# Altium schematic symbol library Speaker Library.SchLib: 101 symbols
Pins are listed as number, name and electrical type; pins without a type are passive.

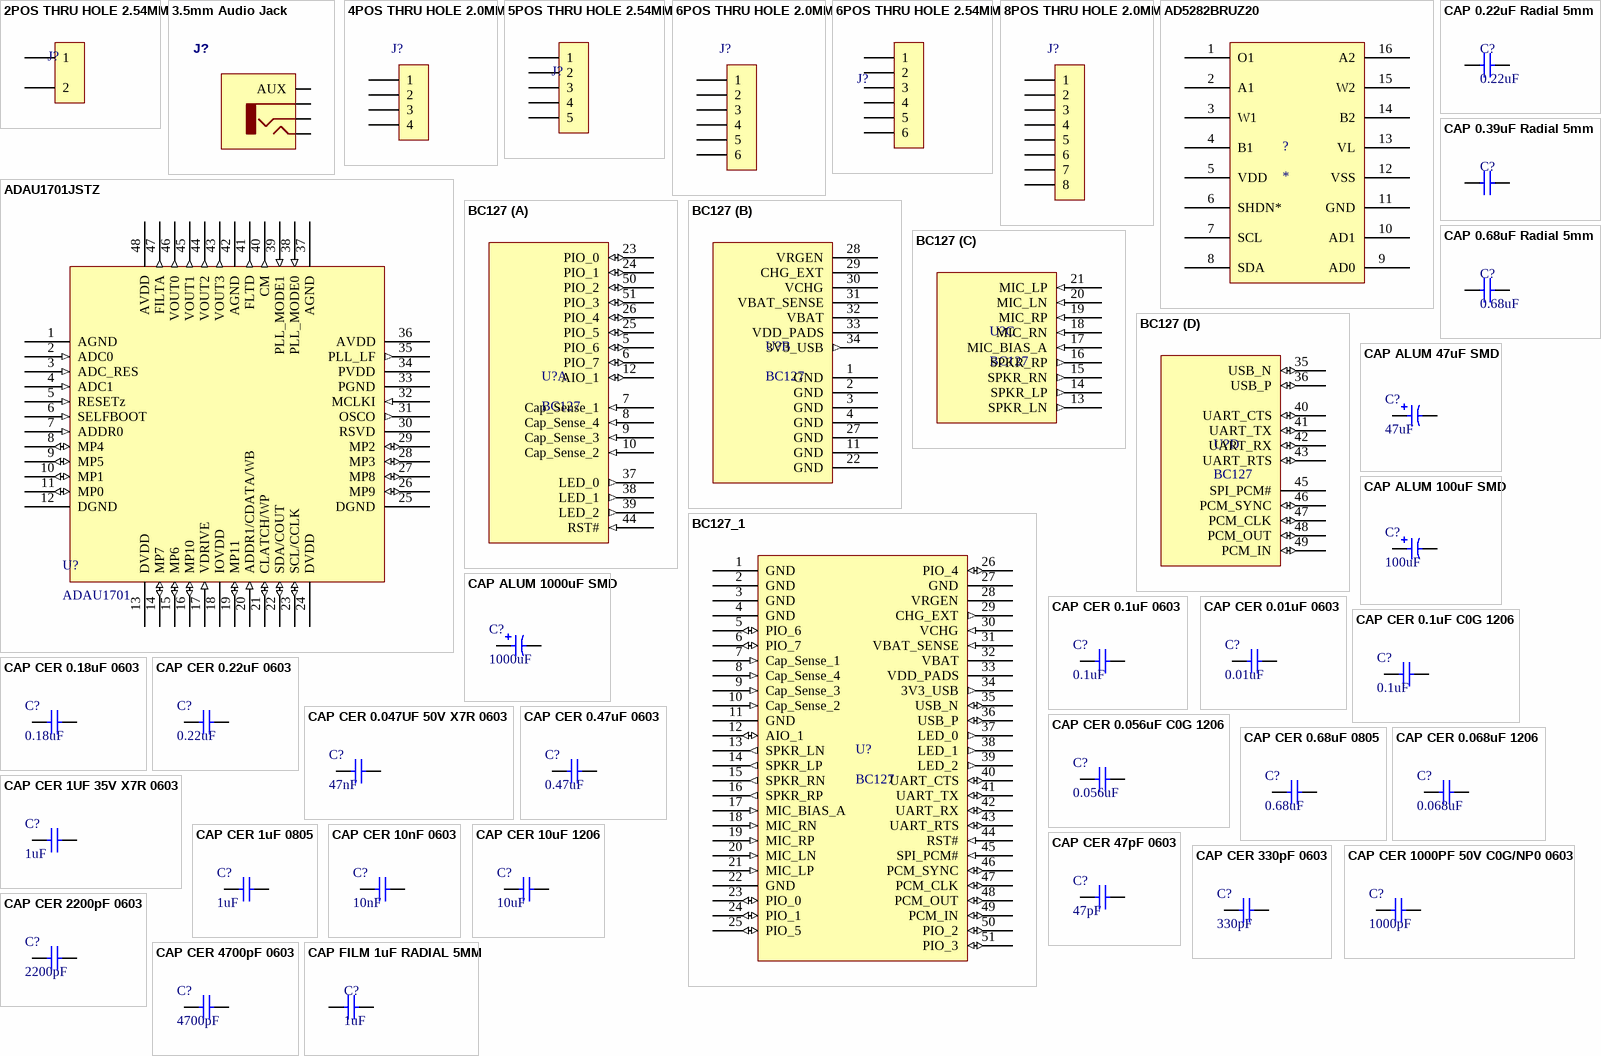
[diagram p0: symbols 2POS THRU HOLE 2.54MM to CAP FILM 1uF RADIAL 5MM]

## 2POS THRU HOLE 2.54MM
designator J?
footprint 070543-0001 (Connector, Through-hole, 2.54mm Pitch)
pins: 1, 2

## 3.5mm Audio Jack
designator J?
footprint JST PH-4
pins: 1 AUX, 2 SLEEVE, 3 RIGHT, 4 LEFT

## 4POS THRU HOLE 2.0MM
designator J?  (value not drawn)
Digikey Part Number: 455-1706-ND
footprint JST PH-4
pins: 1, 2, 3, 4

## 5POS THRU HOLE 2.54MM
designator J?  (value not drawn)
footprint 70543-0004 (Connector, Through-hole, 2.54mm Pitch)
pins: 1, 2, 3, 4, 5

## 6POS THRU HOLE 2.0MM
designator J?  (value not drawn)
Digikey Part Number: 455-1708-ND
footprint JST PH-6
pins: 1, 2, 3, 4, 5, 6

## 6POS THRU HOLE 2.54MM
designator J?  (value not drawn)
footprint 90147-1106 (Receptacle, 6POS, Through-hole, 2.54mm Pitch)
pins: 1, 2, 3, 4, 5, 6

## 8POS THRU HOLE 2.0MM
designator J?  (value not drawn)
Digikey Part Number: 455-1710-ND
footprint JST PH-8
pins: 1, 2, 3, 4, 5, 6, 7, 8

## AD5282BRUZ20
designator ?
Imported; Manufacturer_Part_Number: AD5282BRUZ20; Vendor: Analog Devices Inc; Taps: 256; Resistance (Ohms): 20K; Number of Circuits: 2; Temperature Coefficient: 30 ppm/Â°C Typical; Memory Type: Volatile; Interface: IÂ²C (Device Address); Voltage - Supply: 4.5 V ~ 16.5 V, Â±4.5 V ~ 5.5 V; C: Copyright (C) 2015 Accelerated Designs. All rights reserved; DigiKeyPartNumber: AD5282BRUZ20-ND; Quantity_Available: 1600; DataSheet: http://www.analog.com/static/imported-files/data_sheets/AD5280_5282.pdf; Operating Temperature: -40Â°C ~ 85Â°C; Mounting Type: Surface Mount; Package / Case: 16-TSSOP (0.173", 4.40mm Width); Supplier Device Package: 16-TSSOP; Packaging: Tube; Copyright: Copyright (C) 2015 Accelerated Designs. All rights reserved; RefDes: RefDes; Type: Type; Value: Value
footprint TSSOP-16
pins: 1 O1, 2 A1, 3 W1, 4 B1, 5 VDD (power), 6 SHDN*, 7 SCL, 8 SDA, 9 AD0, 10 AD1, 11 GND, 12 VSS (power), 13 VL (power), 14 B2, 15 W2, 16 A2

## ADAU1701JSTZ
designator U?, comment ADAU1701
IC AUDIO PROCESSOR 2ADC/4DAC 48-LQFP; Manufacturer: Analog Devices; Value: ADAU1701; Digikey Part Number: ADAU1701JSTZ-RLCT-ND
footprint TSQFP50P900X900X160-48M (TSQFP, 48-Leads, Body 7.00x7.00mm, Pitch 0.50mm, IPC Low Density)
pins: 1 AGND (power) "Analog Ground", 2 ADC0 (in) "Analog In 0, 100uA rms input", 3 ADC_RES (in) "ADC Reference Current", 4 ADC1 (in) "Analog In 0, 100uA rms input", 5 RESETz (in) "Active Low Reset Input", 6 SELFBOOT (in) "Enable/Disable Self Boot", 7 ADDR0 (in) "I2C and SPI Address 0", 8 MP4 (io) "LRCLK", 9 MP5 (io) "BCLK", 10 MP1 (io) "SDATA_IN0", 11 MP0 (io) "SDATA_IN1", 12 DGND (power) "Digital Ground", 13 DVDD (power) "1.8V Digital Supply", 14 MP7 (io) "SDATA_OUT1", 15 MP6 (io) "SDATA_OUT0", 16 MP10 (io) "OUTPUT_LRCLK", 17 VDRIVE (in) "Drive for 1.8V Regulator", 18 IOVDD (power) "3.3V IO Power", 19 MP11 (io) "OUTPUT_BCLK", 20 ADDR1/CDATA/WB (in) "I2C Address 1, SPI Data In, EEPROM Writeback Trigger", 21 CLATCH/WP (io) "SPI Latch/Self-Boot EEPROM Write Protect", 22 SDA/COUT (io) "I2C Data/SPI Data Out", 23 SCL/CCLK (io) "SPI/I2C clock", 24 DVDD (power) "1.8V Digital Supply", 25 DGND (power) "Digital Ground", 26 MP9 (io) "SDATA_OUT3, AUX ADC 0", 27 MP8 (io) "SDATA_OUT2, AUX ADC 3", 28 MP3 (io) "SDATA_IN3, AUX ADC 2", 29 MP2 (io) "SDATA_IN2, AUX ADC 1", 30 RSVD "Tie to ground", 31 OSCO (out) "Oscillator Output", 32 MCLKI (in) "Master Clock Input", 33 PGND (power) "PLL Ground Pin", 34 PVDD (power) "3V3 Power Supply for PLL and Aux ADC", 35 PLL_LF (out) "PLL Loop Filter", 36 AVDD (power) "3V3 Analog Supply", 37 AGND (power) "Analog Ground", 38 PLL_MODE0 (in) "PLL Mode Setting", 39 PLL_MODE1 (in) "PLL Mode Setting", 40 CM (out) "1.5V Common-Mode Reference", 41 FLTD (out) "DAC Filter Decoupling Pin", 42 AGND (power) "Analog Ground", 43 VOUT3 (out) "DAC Output", 44 VOUT2 (out) "DAC Output", 45 VOUT1 (out) "DAC Output", 46 VOUT0 (out) "DAC Output", 47 FILTA (out) "ADC Filter Decoupling", 48 AVDD (power) "3V3 Analog Supply"

## BC127
designator U?
footprint BC127
part A pins: 5 PIO_6 (io) "PIO", 6 PIO_7 (io) "PIO", 7 Cap_Sense_1 (in), 8 Cap_Sense_4 (in), 9 Cap_Sense_3 (in), 10 Cap_Sense_2 (in), 12 AIO_1 (io) "Analog I/O", 23 PIO_0 (io), 24 PIO_1 (io), 25 PIO_5 (io), 26 PIO_4 (io), 37 LED_0 (out) "LED Driver", 38 LED_1 (out) "LED Driver", 39 LED_2 (out) "LED Driver", 44 RST# (in) "Reset (if low for more than 5ms)", 50 PIO_2 (io), 51 PIO_3 (io)
part B pins: 1 GND (power) "Common Ground", 2 GND (power) "Common Ground", 3 GND (power) "Common Ground", 4 GND (power) "Common Ground", 11 GND (power) "Common Ground", 22 GND (power) "Common Ground", 27 GND (power) "Common Ground", 28 VRGEN, 29 CHG_EXT "Charger Control", 30 VCHG "Charger Input", 31 VBAT_SENSE "Battery Charger Sense", 32 VBAT "Battery Positive", 33 VDD_PADS (power) "Positive Supply Input", 34 3V3_USB (out) "Positive Supply Output"
part C pins: 13 SPKR_LN (out) "Speaker Left Negative", 14 SPKR_LP (out) "Speaker Left Positive", 15 SPKR_RN (out) "Speaker Right Negative", 16 SPKR_RP (out) "Speaker Right Positive", 17 MIC_BIAS_A (in), 18 MIC_RN (in), 19 MIC_RP (in), 20 MIC_LN (in), 21 MIC_LP (in)
part D pins: 35 USB_N (io) "USB Data Negative", 36 USB_P (io) "USB Data Positive", 40 UART_CTS (io) "UART Clear to Send", 41 UART_TX (io) "UART TX Data", 42 UART_RX (io) "UART RX Data", 43 UART_RTS (io) "UART Request to Send, Active Low", 45 SPI_PCM# "PCB/SPI Select", 46 PCM_SYNC (io), 47 PCM_CLK (io), 48 PCM_OUT (io), 49 PCM_IN (io)

## BC127_1
designator U?, comment BC127
footprint BC127
pins: 1 GND (power) "Common Ground", 2 GND (power) "Common Ground", 3 GND (power) "Common Ground", 4 GND (power) "Common Ground", 5 PIO_6 (io) "PIO", 6 PIO_7 (io) "PIO", 7 Cap_Sense_1 (in), 8 Cap_Sense_4 (in), 9 Cap_Sense_3 (in), 10 Cap_Sense_2 (in), 11 GND (power) "Common Ground", 12 AIO_1 (io) "Analog I/O", 13 SPKR_LN (out) "Speaker Left Negative", 14 SPKR_LP (out) "Speaker Left Positive", 15 SPKR_RN (out) "Speaker Right Negative", 16 SPKR_RP (out) "Speaker Right Positive", 17 MIC_BIAS_A (in), 18 MIC_RN (in), 19 MIC_RP (in), 20 MIC_LN (in), 21 MIC_LP (in), 22 GND (power) "Common Ground", 23 PIO_0 (io), 24 PIO_1 (io), 25 PIO_5 (io), 26 PIO_4 (io), 27 GND (power) "Common Ground", 28 VRGEN, 29 CHG_EXT (out) "Charger Control", 30 VCHG (in) "Charger Input", 31 VBAT_SENSE (in) "Battery Charger Sense", 32 VBAT "Battery Positive", 33 VDD_PADS (power) "Positive Supply Input", 34 3V3_USB (out) "Positive Supply Output", 35 USB_N (io) "USB Data Negative", 36 USB_P (io) "USB Data Positive", 37 LED_0 (out) "LED Driver", 38 LED_1 (out) "LED Driver", 39 LED_2 (out) "LED Driver", 40 UART_CTS (io) "UART Clear to Send", 41 UART_TX (io) "UART TX Data", 42 UART_RX (io) "UART RX Data", 43 UART_RTS (io) "UART Request to Send, Active Low", 44 RST# (in) "Reset (if low for more than 5ms)", 45 SPI_PCM# (in) "PCB/SPI Select", 46 PCM_SYNC (io), 47 PCM_CLK (io), 48 PCM_OUT (io), 49 PCM_IN (io), 50 PIO_2 (io), 51 PIO_3 (io)

## CAP 0.22uF Radial 5mm
designator C?, comment 0.22uF
Film cap in crossover; Manufacturer: EPCOS (TDK); Voltage: 100V; Value: 0.22uF; Digikey Part Number: 495-4985-1-ND
footprint CAP Radial 5mm
pins: 1, 2

## CAP 0.39uF Radial 5mm
designator C?, comment 0.39uF  (value not drawn)
Film cap in LT; Manufacturer: EPCOS (TDK); Manufacturer P/N: B32529C105J; Voltage: 63V; Value: 0.39uF; Digikey Part Number: 495-4846-1-ND
footprint CAP Radial 5mm
pins: 1, 2

## CAP 0.68uF Radial 5mm
designator C?, comment 0.68uF
Output Cap; Manufacturer: EPCOS (TDK); Voltage: 63V; Value: 0.68uF; Digikey Part Number: 495-1114-ND
footprint CAP Radial 5mm
pins: 1, 2

## CAP ALUM 47uF SMD
designator C?, comment 47uF
Manufacturer: Panasonic; Voltage: 35V; Digikey Part Number: PCE3842CT-ND; Value: 47uF
footprint CAP_EEFK_D
pins: 1, 2

## CAP ALUM 100uF SMD
designator C?, comment 100uF
Manufacturer: Nichicon; Voltage: 50V; Digikey Part Number: 493-2226-1-ND; Value: 100uF
footprint PCAP_8x10-ELEC00
pins: 1, 2

## CAP ALUM 1000uF SMD
designator C?, comment 1000uF
Input Bulk Cap; Manufacturer: Nichicon; Voltage: 25V; Tolerance: 20%; Digikey Part Number: 493-1305-ND; Value: 1000uF
footprint Nichicon UVZ 5mm
pins: 1, 2

## CAP CER 0.1uF 0603
designator C?, comment 0.1uF
Voltage: 50V; Rating: X7R; Tolerance: 10%; Value: 0.1uF; Digikey Part Number: 490-1519-1-ND; Package: 0603
footprint CAPC1608X09N (Chip Capacitor, 2-Leads, Body 1.60x0.80mm, IPC Medium Density)
pins: 1, 2

## CAP CER 0.01uF 0603
designator C?, comment 0.01uF
Manufacturer: Murata; Rating: C0G; Value: 0.01uF; Digikey Part Number: 490-9666-1-ND
footprint CAPC1608X09N (Chip Capacitor, 2-Leads, Body 1.60x0.80mm, IPC Medium Density)
pins: 1, 2

## CAP CER 0.1uF C0G 1206
designator C?, comment 0.1uF
Voltage: 25V; Rating: C0G; Tolerance: 5%; Value: 0.1uF; Digikey Part Number: 490-1767-1-ND; Package: 1206
footprint CAPC3216X18N (Chip Capacitor, 2-Leads, Body 3.20x1.60mm, IPC Medium Density)
pins: 1, 2

## CAP CER 0.18uF 0603
designator C?, comment 0.18uF
Manufacturer: Murata; Voltage: 25V; Rating: X7R; Value: 0.18uF; Digikey Part Number: 490-6431-1-ND; Package: 0603
footprint CAPC1608X09N (Chip Capacitor, 2-Leads, Body 1.60x0.80mm, IPC Medium Density)
pins: 1, 2

## CAP CER 0.22uF 0603
designator C?, comment 0.22uF
Manufacturer: Murata; Voltage: 50V; Rating: X7R; Value: 0.22uF; Digikey Part Number: 1276-1111-1-ND
footprint CAPC1608X09N (Chip Capacitor, 2-Leads, Body 1.60x0.80mm, IPC Medium Density)
pins: 1, 2

## CAP CER 0.047UF 50V X7R 0603
designator C?, comment 47nF
CAP CER 0.047UF 50V X7R 0603; Manufacturer: Murata; Manufacturer Part Number: GRM188R71H473KA61J; Tolerance: 10%; Value: 47nF; Digikey Part Number: 490-6436-1-ND; Voltage: 50V; Rating: X7R
footprint CAPC1608X09N (Chip Capacitor, 2-Leads, Body 1.60x0.80mm, IPC Medium Density)
pins: 1, 2

## CAP CER 0.47uF 0603
designator C?, comment 0.47uF
Voltage: 25V; Rating: X7R; Value: 0.47uF; Digikey Part Number: 490-3291-1-ND
footprint CAPC1608X09N (Chip Capacitor, 2-Leads, Body 1.60x0.80mm, IPC Medium Density)
pins: 1, 2

## CAP CER 0.056uF C0G 1206
designator C?, comment 0.056uF
Voltage: 50V; Rating: C0G; Tolerance: 5%; Value: 0.056uF; Digikey Part Number: 490-8347-1-ND; Package: 1206
footprint CAPC3216X18N (Chip Capacitor, 2-Leads, Body 3.20x1.60mm, IPC Medium Density)
pins: 1, 2

## CAP CER 0.68uF 0805
designator C?, comment 0.68uF
High Reliability, Low Voltage Shift; Manufacturer: TDK; Manufacturer Part Number: CGJ4J2X7R1E684K125AA; Voltage: 25V; Rating: X7R; Value: 0.68uF; Digikey Part Number: 445-8178-1-ND
footprint CAPC2012X09N (Chip Capacitor, 2-Leads, Body 2.00x1.25mm, IPC Medium Density)
pins: 1, 2

## CAP CER 0.068uF 1206
designator C?, comment 0.068uF
Voltage: 100V; Rating: C0G; Tolerance: 5%; Value: 0.068uF; Digikey Part Number: 445-172693-1-ND; Package: 1206
footprint CAPC3216X18N (Chip Capacitor, 2-Leads, Body 3.20x1.60mm, IPC Medium Density)
pins: 1, 2

## CAP CER 1UF 35V X7R 0603
designator C?, comment 1uF
CAP CER 1UF 35V X7R 0603; Manufacturer: Murata; Manufacturer Part Number: GRM188R7YA105MA12D; Tolerance: 20%; Value: 1uF; Digikey Part Number: 490-10488-1-ND; Voltage: 35V; Rating: X7R
footprint CAPC1608X09N (Chip Capacitor, 2-Leads, Body 1.60x0.80mm, IPC Medium Density)
pins: 1, 2

## CAP CER 1uF 0805
designator C?, comment 1uF
Ceramic suitable for audio AC coupling; Manufacturer: Murata; Manufacturer Part Number: GRM21BR71E105KA99; Voltage: 25V; Tolerance: 10%; Rating: X7R; Value: 1uF; Digikey Part Number: 490-6484-1-ND
footprint CAPC2012X09N (Chip Capacitor, 2-Leads, Body 2.00x1.25mm, IPC Medium Density)
pins: 1, 2

## CAP CER 10nF 0603
designator C?, comment 10nF
Bypass caps; Manufacturer: Murata; Digikey Part Number: 490-9666-1-ND; Value: 10nF
footprint CAPC1608X09N (Chip Capacitor, 2-Leads, Body 1.60x0.80mm, IPC Medium Density)
pins: 1, 2

## CAP CER 10uF 1206
designator C?, comment 10uF
3V3 filter cap; Voltage: 25V; Rating: X7R; Digikey Part Number: 490-6518-1-ND; Value: 10uF
footprint CAPC3216X18N (Chip Capacitor, 2-Leads, Body 3.20x1.60mm, IPC Medium Density)
pins: 1, 2

## CAP CER 47pF 0603
designator C?, comment 47pF
Rating: C0G; Voltage: 50V; Value: 47pF; Digikey Part Number: 490-1419-1-ND
footprint CAPC1608X09N (Chip Capacitor, 2-Leads, Body 1.60x0.80mm, IPC Medium Density)
pins: 1, 2

## CAP CER 330pF 0603
designator C?, comment 330pF
Manufacturer: Murata; Rating: C0G; Voltage: 50V; Value: 330pF; Digikey Part Number: 490-1439-1-ND
footprint CAPC1608X09N (Chip Capacitor, 2-Leads, Body 1.60x0.80mm, IPC Medium Density)
pins: 1, 2

## CAP CER 1000PF 50V C0G/NP0 0603
designator C?, comment 1000pF
CAP CER 1000PF 50V C0G/NP0 0603; Manufacturer: Murata; Manufacturer Part Number: GRM1885C1H102JA01D; Rating: C0G; Value: 1000pF; Digikey Part Number: 490-1451-1-ND; Voltage: 50V
footprint CAPC1608X09N (Chip Capacitor, 2-Leads, Body 1.60x0.80mm, IPC Medium Density)
pins: 1, 2

## CAP CER 2200pF 0603
designator C?, comment 2200pF
Manufacturer: Murata; Voltage: 50V; Tolerance: 1%; Rating: C0G; Value: 2200pF; Digikey Part Number: 490-7768-1-ND
footprint CAPC1608X09N (Chip Capacitor, 2-Leads, Body 1.60x0.80mm, IPC Medium Density)
pins: 1, 2

## CAP CER 4700pF 0603
designator C?, comment 4700pF
Manufacturer: TDK; Voltage: 100V; Tolerance: 5%; Rating: C0G; Value: 4700pF; Digikey Part Number: 445-172684-1-ND
footprint CAPC1608X09N (Chip Capacitor, 2-Leads, Body 1.60x0.80mm, IPC Medium Density)
pins: 1, 2

## CAP FILM 1uF RADIAL 5MM
designator C?, comment 1uF
Audio coupling cap; Manufacturer: EPCOS (TDK); Manufacturer P/N: B32529C105J; Voltage: 63V; Value: 1uF; Digikey Part Number: 495-1119-ND
footprint CAP Radial 5mm
pins: 1, 2

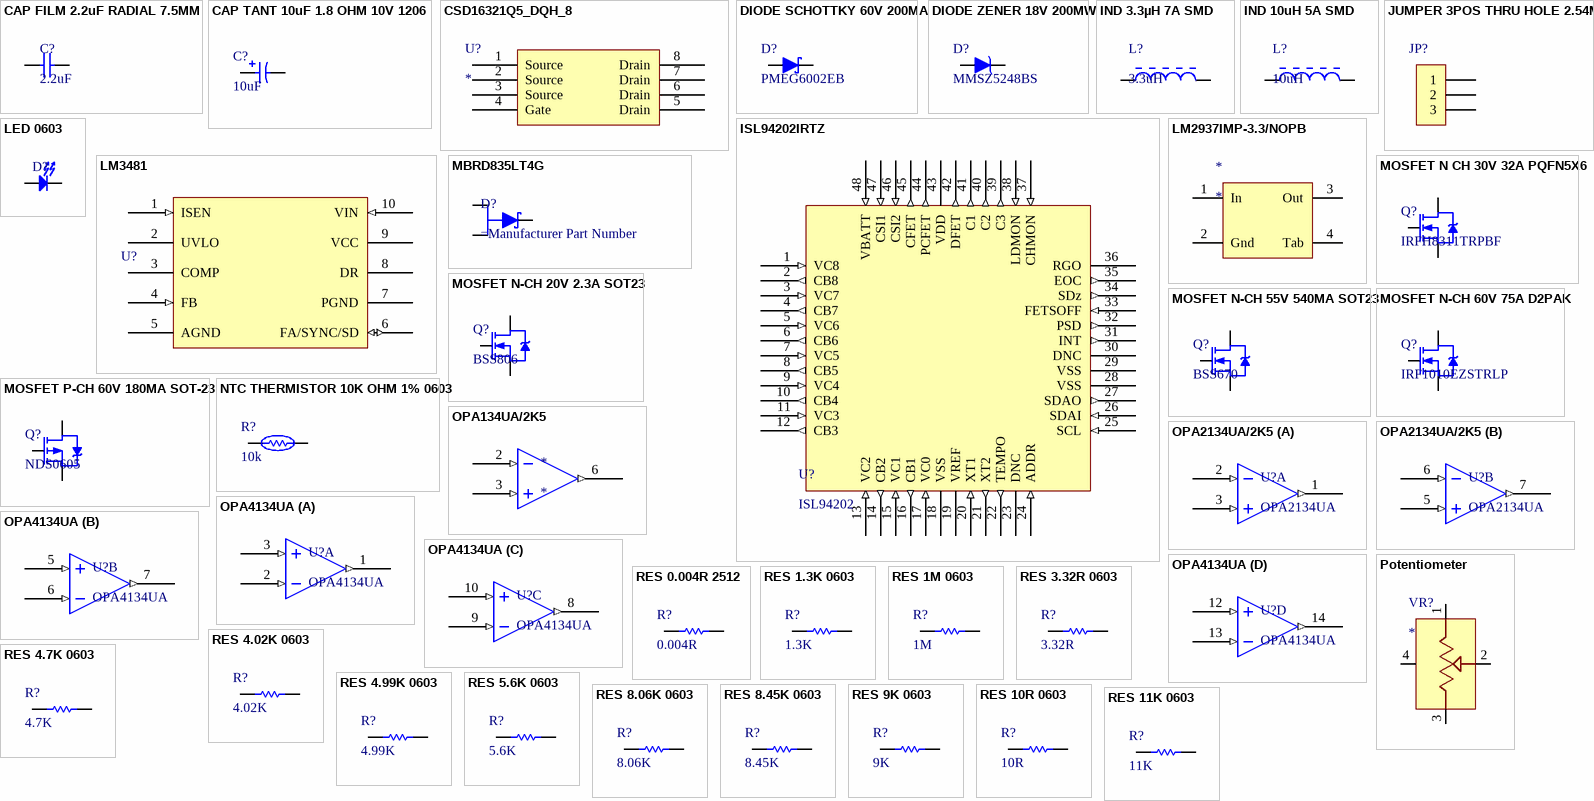
[diagram p1: symbols CAP FILM 2.2uF RADIAL 7.5MM to RES 11K 0603]

## CAP FILM 2.2uF RADIAL 7.5MM
designator C?, comment 2.2uF
Audio coupling cap; Manufacturer: EPCOS (TDK); Manufacturer P/N: B32520C225K; Voltage: 40V; Value: 2.2uF; Digikey Part Number: 495-4814-ND
footprint CAP Radial 7.5MM
pins: 1, 2

## CAP TANT 10uF 1.8 OHM 10V 1206
designator C?, comment 10uF
Voltage: 10V; Tolerance: 10%; ESR: 1.8 Ohm; Digikey Part Number: 399-8431-1-ND; Value: 10uF
footprint CAPMP3216X18N (Molded Capacitor, 2-Leads, Body 3.20x1.60mm, IPC Medium Density)
pins: 1, 2

## CSD16321Q5_DQH_8
designator U?
Manufacturer: Texas Instruments; GENERIC_PART_NUMBER: CSD16321Q5; INDUSTRY_STD_PKG_TYPE: SON; FAMILY_NAME: N-Channel MOSFET Transistors; PIN_COUNT: 8; PACKAGE_DESIGNATOR: DQH; Datasheet URL: http://www.ti.com/lit/gpn/CSD16321Q5; RefDes: RefDes; Type: DEV; Value: Value; Digikey Part Number: 296-25643-1-ND
footprint DQH8
pins: 1 Source, 2 Source, 3 Source, 4 Gate, 5 Drain, 6 Drain, 7 Drain, 8 Drain

## DIODE SCHOTTKY 60V 200MA
designator D?, comment PMEG6002EB
DIODE SCHOTTKY 60V 200MA; Configuration: Single; Type: Schottky; Footprint: SOD523; Voltage: 60V; Current: 200mA; Digikey Part Number: 1727-5843-1-ND; Value: PMEG6002EB
footprint SODFL160X65-2N (SODFL, 2-Leads, Body 0.80x1.60mm, IPC Medium Density)
pins: 1, 2

## DIODE ZENER 18V 200MW
designator D?, comment MMSZ5248BS
DIODE ZENER 18V 200MW; Configuration: Single; Type: ZENER; Footprint: SOD323; Voltage: 18V; Digikey Part Number: MMSZ5248BS-FDICT-ND; Value: MMSZ5248BS
footprint SOD323-DIODES-INCORPORATED-MMSZ5248 (SOD323, 2-Leads, Body 1.30x2.50mm, IPC Medium Density)
pins: 1, 2

## IND 3.3µH 7A SMD
designator L?, comment 3.3uH
Digikey Part Number: SRP7030-3R3FMCT-ND; Value: 3.3uH
footprint IND_BOURNS_SRP00 - duplicate
pins: 1, 2

## IND 10uH 5A SMD
designator L?, comment 10uH
Digikey Part Number: SRN1060-100MCT-ND; Value: 10uH
footprint IND_BOURNS_SRN10
pins: 1, 2

## ISL94202IRTZ
designator U?, comment ISL94202
IC MULTI BATTERY MONITOR 48TQFN; Manufacturer: Intersil; Digikey Part Number: ISL94202IRTZ-T7ACT-ND; Value: ISL94202; Footprint: TQFN (6x6)
pins: 1 VC8 (in), 2 CB8 (out), 3 VC7 (in), 4 CB7 (out), 5 VC6 (in), 6 CB6 (out), 7 VC5 (in), 8 CB5 (out), 9 VC4 (in), 10 CB4 (out), 11 VC3 (in), 12 CB3 (out), 13 VC2 (in), 14 CB2 (out), 15 VC1 (in), 16 CB1 (out), 17 VC0 (in), 18 VSS (power), 19 VREF (power), 20 XT1 (in), 21 XT2 (out), 22 TEMPO (out), 23 DNC, 24 ADDR (in), 25 SCL (in), 26 SDAI (in), 27 SDAO (out), 28 VSS (power), 29 VSS (power), 30 DNC, 31 INT (out), 32 PSD (out), 33 FETSOFF (in), 34 SDz (out), 35 EOC (out), 36 RGO (power), 37 CHMON (in), 38 LDMON (in), 39 C3 (out), 40 C2 (out), 41 C1 (out), 42 DFET (out), 43 VDD (power), 44 PCFET (out), 45 CFET (out), 46 CSI2 (in), 47 CSI1 (in), 48 VBATT (in)

## JUMPER 3POS THRU HOLE 2.54MM
designator JP?
footprint 3 Position 2.54MM Thru-Hole (Jumper, Through-hole, 2.54mm Pitch)
pins: 1, 2, 3

## LED 0603
designator D?
Voltage: 2.2V; Configuration: Single; Current: 20mA; Footprint: 0603; Temperature: 85dC; Digikey Part Number: 160-1447-1-ND
footprint DIOM1608X08N (Molded Diode, 2-Leads, Body 1.60x0.80mm, IPC Medium Density)
pins: 1 K2, 2 A2

## LM2937IMP-3.3/NOPB
designator *
Digikey Part Number: LM2937IMP-3.3/NOPBCT-ND
footprint SOT230P700X180-4N (DCY) (SOT223, 4-Leads, Body 6.50x7.00mm (avg), Pitch 2.30mm, IPC Medium Density)
pins: 1 In (power), 2 Gnd (power), 3 Out (power), 4 Tab (power)

## LM3481
designator U?  (value not drawn)
IC REG CTRLR MULT TOP 10MSOP; Digikey Part Number: LM3481MM/NOPBCT-ND
footprint VSSOP10 (DGS (S-PDS0-G10)
pins: 1 ISEN (in), 2 UVLO, 3 COMP, 4 FB (in), 5 AGND (power), 6 FA/SYNC/SD (io), 7 PGND (power), 8 DR, 9 VCC (power), 10 VIN (in)

## MBRD835LT4G
designator D?
SHOTTKEY 35V 8A; Type: SCHOT; Configuration: Single; Footprint: TO-252-3; Voltage: 35V; Current: 8A; Digikey Part Number: MBRD835LT4GOSCT-ND
footprint ONSEMI DPAK-3
pins: 1, 3, 4

## MOSFET N CH 30V 32A PQFN5X6
designator Q?, comment IRFH8311TRPBF
MOSFET N CH 30V 32A PQFN5X6; Manufacturer: Infineon Technologies; Rds On (Max): 2.1 mOhm @ 20A, 10V; Vth: 2.35V @ 100µA; Power Dissipation (Max): 3.6W; Vgs (max): ±20V; Digikey Part Number: IRFH8311TRPBFCT-ND; VDS: 30V; Value: IRFH8311TRPBF; Max Current: 32A
footprint 8-TQFN Exposed Pad (Infineon "G" package)
pins: 1 G, 2 S, 3 D

## MOSFET N-CH 20V 2.3A SOT23
designator Q?, comment BSS806
MOSFET N-CH 20V 2.3A SOT23; Manufacturer: Infineon Technologies; Rds On (Max): 57 mOhm @ 2.3A, 2.5V; Vth: 750mV; Power Dissipation (Max): 500mW; Vgs (max): 8V; Digikey Part Number: BSS806NH6327XTSA1CT-ND; VDS: 20V; Value: BSS806; Max Current: 2.3A
pins: 1 G, 2 S, 3 D

## MOSFET N-CH 55V 540MA SOT23
designator Q?, comment BSS670
MOSFET N-CH 55V 540MA SOT23; Manufacturer: Infineon Technologies; VDS: 50V; Rds On (Max): 650 mOhm @ 270mA, 10V; Vth: 2V; Power Dissipation (Max): 360mW; Vgs (max): 20V; Digikey Part Number: BSS670S2LH6327XTSA1CT-ND; Value: BSS670; Max Current: 540mA
footprint SOT95P237X110-3N (SOT23, 3-Leads, Body 2.90x2.37mm, Pitch 0.95mm, IPC Medium Density)
pins: 1 G, 2 S, 3 D

## MOSFET N-CH 60V 75A D2PAK
designator Q?, comment IRF1010EZSTRLP
MOSFET N-CH 60V 75A; Manufacturer: Infineon Technologies; Rds On (Max): 8.5 mOhm @ 51A, 10V; Vth: 4V @ 100µA; Power Dissipation (Max): 140W; Vgs (max): 20V; Digikey Part Number: IRF1010EZSTRLPCT-ND; VDS: 60V; Value: IRF1010EZSTRLP; Max Current: 75A
pins: 1 G, 2 S, 3 D

## MOSFET P-CH 60V 180MA SOT-23
designator Q?, comment NDS0605
MOSFET P-CH 60V 180MA SOT-23; Manufacturer: Fairchild/ON Semiconductor; Rds On (Max): 5 Ohm @ 500mA, 10V; Vth: 3V @ 250µA; Power Dissipation (Max): 360mW; Vgs (max): ±20V; Digikey Part Number: NDS0605CT-ND; VDS: 60V; Value: NDS0605; Max Current: 180mA
footprint SOT95P237X110-3N (SOT23, 3-Leads, Body 2.90x2.37mm, Pitch 0.95mm, IPC Medium Density)
pins: 1 G, 2 S, 3 D

## NTC THERMISTOR 10K OHM 1% 0603
designator R?, comment 10k
NTC THERMISTOR 10K OHM 1% 0603; Manufacturer: Panasonic Electronic Components; Manufacturer Part Number: ERT-J1VG103FA; Power: 100mW; Type: THERMISTOR; Footprint: 0603; Tolerance: 1%; Value: 10k; Digikey Part Number: P12011CT-ND
footprint RESC1608X06N (Chip Resistor, 2-Leads, Body 1.60x0.80mm, IPC Medium Density)
pins: 1, 2

## OPA134UA/2K5
designator *
Digikey Part Number: 296-26241-1-ND
footprint SOIC127P600X175-8N (SOIC, 8-Leads, Body 4.90x3.90mm, Pitch 1.27mm, IPC Medium Density)
pins: 2 -In A (in), 3 +In A (in), 4 V- (power) hidden to GND, 6 Out (out), 7 V+ (power) hidden to VBAT

## OPA2134UA/2K5
designator U?, comment OPA2134UA
Digikey Part Number: 296-22024-1-ND; Value: OPA2134UA
footprint SOIC127P600X175-8N (SOIC, 8-Leads, Body 4.90x3.90mm, Pitch 1.27mm, IPC Medium Density)
part A pins: 1 Out A (out), 2 -In A (in), 3 +In A (in), 4 V- (power) hidden to GND, 8 V+ (power) hidden to V+
part B pins: 5 +In B (in), 6 -In B (in), 7 Out B (out)

## OPA4134UA
designator U?
Quad OPAx134 Operational Amplifier; Digikey Part Number: 296-26284-1-ND; Value: OPA4134UA
footprint SOIC127P600X175-14N (SOIC, 14-Leads, Body 8.65x3.90mm, Pitch 1.27mm, IPC Medium Density)
part A pins: 1 Out A (out), 2 -In A (in), 3 +In A (in), 4 V+ (power) hidden to V+
part B pins: 5 +In B (in), 6 -In B (in), 7 Out B (out)
part C pins: 8 Out C (out), 9 -In C (in), 10 +In C (in), 11 V- (power) hidden to GND
part D pins: 12 +In D (in), 13 -In D (in), 14 Out D (out)

## Potentiometer
designator VR?
Value: *
footprint JST PH-4
pins: 1 A, 2 W, 3 B, 4

## RES 0.004R 2512
designator R?, comment 0.004R
Manufacturer: Panasonic; Tolerance: 1%; Power: 1W; Type: RES; Footprint: 2512; Digikey Part Number: P4.0MCT-ND; Value: 0.004R
footprint RESC6533X09N (Chip Resistor, 2-Leads, Body 6.45x3.35mm, IPC Medium Density)
pins: 1, 2

## RES 1.3K 0603
designator R?, comment 1.3K
Manufacturer: Vishay Dale; Tolerance: 1%; Power: 0.1W; Type: RES; Footprint: 0603; Digikey Part Number: 541-1.30KHCT-ND; Value: 1.3K
footprint RESC1608X06N (Chip Resistor, 2-Leads, Body 1.55x0.85mm, IPC Medium Density)
pins: 1, 2

## RES 1M 0603
designator R?, comment 1M
Tolerance: 1%; Power: 0.1W; Footprint: 0603; Value: 1M; Digikey Part Number: 311-1.00MHRCT-ND
footprint RESC1608X06N (Chip Resistor, 2-Leads, Body 1.55x0.85mm, IPC Medium Density)
pins: 1, 2

## RES 3.32R 0603
designator R?, comment 3.32R
Tolerance: 1%; Power: 0.1W; Type: RES; Footprint: 0603; Digikey Part Number: 311-3.32HRCT-ND; Value: 3.32R
footprint RESC1608X06N (Chip Resistor, 2-Leads, Body 1.55x0.85mm, IPC Medium Density)
pins: 1, 2

## RES 4.02K 0603
designator R?, comment 4.02K
Tolerance: 1%; Type: RES; Footprint: 0603; Value: 4.02K; Digikey Part Number: 311-4.02KHRCT-ND
footprint RESC1608X06N (Chip Resistor, 2-Leads, Body 1.55x0.85mm, IPC Medium Density)
pins: 1, 2

## RES 4.7K 0603
designator R?, comment 4.7K
Tolerance: 1%; Type: RES; Footprint: 0603; Value: 4.7K; Digikey Part Number: 311-4.70KHRCT-ND
footprint RESC1608X06N (Chip Resistor, 2-Leads, Body 1.55x0.85mm, IPC Medium Density)
pins: 1, 2

## RES 4.99K 0603
designator R?, comment 4.99K
Tolerance: 1%; Type: RES; Footprint: 0603; Value: 4.99K; Digikey Part Number: 311-4.99KHRCT-ND
footprint RESC1608X06N (Chip Resistor, 2-Leads, Body 1.55x0.85mm, IPC Medium Density)
pins: 1, 2

## RES 5.6K 0603
designator R?, comment 5.6K
Tolerance: 1%; Type: RES; Footprint: 0603; Value: 5.6K; Digikey Part Number: 311-5.60KHRCT-ND
footprint RESC1608X06N (Chip Resistor, 2-Leads, Body 1.55x0.85mm, IPC Medium Density)
pins: 1, 2

## RES 8.06K 0603
designator R?, comment 8.06K
Manufacturer: Yageo; Tolerance: 1%; Power: 0.1W; Type: RES; Footprint: 0603; Digikey Part Number: 311-8.06KHRCT-ND; Value: 8.06K
footprint RESC1608X06N (Chip Resistor, 2-Leads, Body 1.55x0.85mm, IPC Medium Density)
pins: 1, 2

## RES 8.45K 0603
designator R?, comment 8.45K
Manufacturer: Vishay Dale; Tolerance: 1%; Power: 0.1W; Type: RES; Footprint: 0603; Digikey Part Number: 541-8.45KHCT-ND; Value: 8.45K
footprint RESC1608X06N (Chip Resistor, 2-Leads, Body 1.55x0.85mm, IPC Medium Density)
pins: 1, 2

## RES 9K 0603
designator R?, comment 9K
Tolerance: 1%; Type: RES; Footprint: 0603; Value: 9K; Digikey Part Number: 311-9.09KHRCT-ND
footprint RESC1608X06N (Chip Resistor, 2-Leads, Body 1.55x0.85mm, IPC Medium Density)
pins: 1, 2

## RES 10R 0603
designator R?, comment 10R
Tolerance: 1%; Power: 0.25W; Type: RES; Footprint: 0603; Digikey Part Number: RHM10.0ADCT-ND; Value: 10R
footprint RESC1608X06N (Chip Resistor, 2-Leads, Body 1.55x0.85mm, IPC Medium Density)
pins: 1, 2

## RES 11K 0603
designator R?, comment 11K
Manufacturer: Yageo; Manufacturer Part Number: RC0603FR-0711KL; Tolerance: 1%; Power: 0.1W; Type: RES; Footprint: 0603; Temperature: 155dC; Digikey Part Number: 311-11.0KHRCT-ND; Value: 11K
footprint RESC1608X06N (Chip Resistor, 2-Leads, Body 1.55x0.85mm, IPC Medium Density)
pins: 1, 2

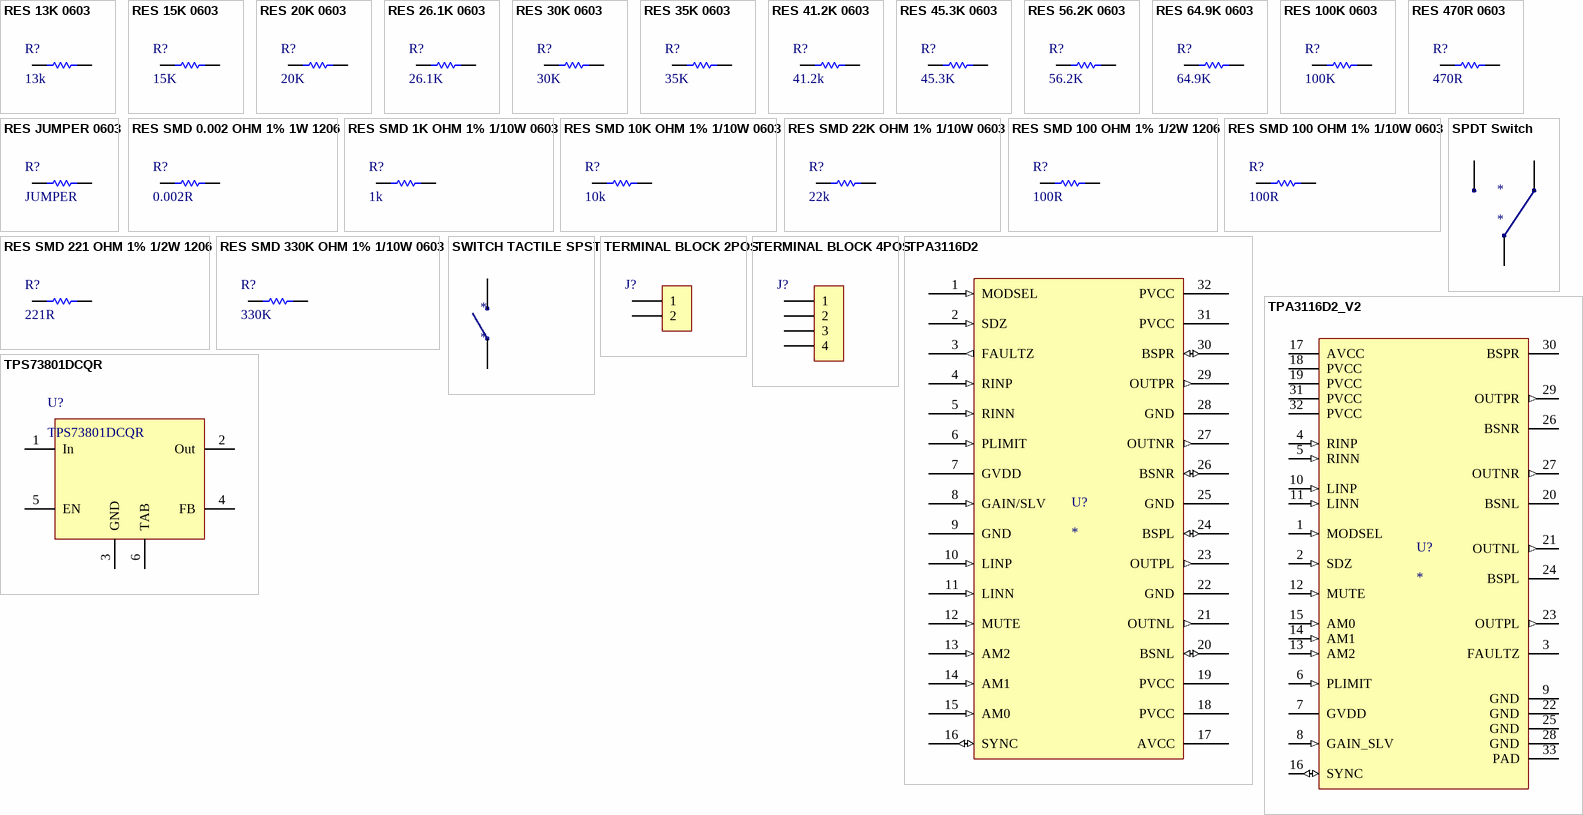
[diagram p2: symbols RES 13K 0603 to TPS73801DCQR]

## RES 13K 0603
designator R?, comment 13k
Tolerance: 1%; Type: RES; Footprint: 0603; Value: 13k; Digikey Part Number: 311-13.0KHRCT-ND
footprint RESC1608X06N (Chip Resistor, 2-Leads, Body 1.55x0.85mm, IPC Medium Density)
pins: 1, 2

## RES 15K 0603
designator R?, comment 15K
Tolerance: 1%; Type: RES; Footprint: 0603; Value: 15K; Digikey Part Number: 311-15.0KHRCT-ND
footprint RESC1608X06N (Chip Resistor, 2-Leads, Body 1.55x0.85mm, IPC Medium Density)
pins: 1, 2

## RES 20K 0603
designator R?, comment 20K
Tolerance: 1%; Power: 0.1W; Footprint: 0603; Value: 20K; Digikey Part Number: 311-20.0KHRCT-ND
footprint RESC1608X06N (Chip Resistor, 2-Leads, Body 1.55x0.85mm, IPC Medium Density)
pins: 1, 2

## RES 26.1K 0603
designator R?, comment 26.1K
Manufacturer: Yageo; Manufacturer Part Number: RC0603FR-0726K1L; Tolerance: 1%; Power: 0.1W; Type: RES; Footprint: 0603; Temperature: 155dC; Digikey Part Number: 311-26.1KHRCT-ND; Value: 26.1K
footprint RESC1608X06N (Chip Resistor, 2-Leads, Body 1.55x0.85mm, IPC Medium Density)
pins: 1, 2

## RES 30K 0603
designator R?, comment 30K
Tolerance: 1%; Type: RES; Footprint: 0603; Value: 30K; Digikey Part Number: 311-30.0KHRCT-ND
footprint RESC1608X06N (Chip Resistor, 2-Leads, Body 1.55x0.85mm, IPC Medium Density)
pins: 1, 2

## RES 35K 0603
designator R?, comment 35K
Tolerance: 1%; Type: RES; Footprint: 0603; Value: 35K; Digikey Part Number: 311-34.8KHRCT-ND
footprint RESC1608X06N (Chip Resistor, 2-Leads, Body 1.55x0.85mm, IPC Medium Density)
pins: 1, 2

## RES 41.2K 0603
designator R?, comment 41.2k
Manufacturer: Vishay Dale; Tolerance: 1%; Power: 0.1W; Type: RES; Footprint: 0603; Digikey Part Number: 311-41.2KHRCT-ND; Value: 41.2k
footprint RESC1608X06N (Chip Resistor, 2-Leads, Body 1.55x0.85mm, IPC Medium Density)
pins: 1, 2

## RES 45.3K 0603
designator R?, comment 45.3K
Manufacturer: Vishay Dale; Tolerance: 1%; Power: 0.1W; Type: RES; Footprint: 0603; Digikey Part Number: 541-45.3KHCT-ND; Value: 45.3K
footprint RESC1608X06N (Chip Resistor, 2-Leads, Body 1.55x0.85mm, IPC Medium Density)
pins: 1, 2

## RES 56.2K 0603
designator R?, comment 56.2K
Manufacturer: Yageo; Manufacturer Part Number: RC0603FR-0756K2L; Tolerance: 1%; Power: 0.1W; Type: RES; Footprint: 0603; Temperature: 155dC; Digikey Part Number: 311-56.2KHRCT-ND; Value: 56.2K
footprint RESC1608X06N (Chip Resistor, 2-Leads, Body 1.55x0.85mm, IPC Medium Density)
pins: 1, 2

## RES 64.9K 0603
designator R?, comment 64.9K
Manufacturer: Vishay Dale; Tolerance: 1%; Power: 0.1W; Type: RES; Footprint: 0603; Digikey Part Number: 541-64.9KHCT-ND; Value: 64.9K
footprint RESC1608X06N (Chip Resistor, 2-Leads, Body 1.55x0.85mm, IPC Medium Density)
pins: 1, 2

## RES 100K 0603
designator R?, comment 100K
Tolerance: 1%; Power: 0.1W; Footprint: 0603; Value: 100K; Digikey Part Number: 311-100KHRCT-ND
footprint RESC1608X06N (Chip Resistor, 2-Leads, Body 1.55x0.85mm, IPC Medium Density)
pins: 1, 2

## RES 470R 0603
designator R?, comment 470R
Tolerance: 1%; Power: 0.25W; Type: RES; Footprint: 0603; Value: 470R; Digikey Part Number: 311-470HRCT-ND
footprint RESC1608X06N (Chip Resistor, 2-Leads, Body 1.55x0.85mm, IPC Medium Density)
pins: 1, 2

## RES JUMPER 0603
designator R?, comment JUMPER
Tolerance: 1%; Power: 0.25W; Type: RES; Footprint: 0603; Temperature: 155dC; Value: JUMPER; Digikey Part Number: 311-0.0GRCT-ND
footprint RESC1608X06N (Chip Resistor, 2-Leads, Body 1.55x0.85mm, IPC Medium Density)
pins: 1, 2

## RES SMD 0.002 OHM 1% 1W 1206
designator R?, comment 0.002R
RES SMD 0.002 OHM 1% 1W 1206; Manufacturer: Stackpole Electronics Inc.; Footprint: 1206; Tolerance: 1%; Power: 1W; Value: 0.002R; Digikey Part Number: CSNL1206FT2L00CT-ND
footprint RESC3216X07N (Chip Resistor, 2-Leads, Body 3.20x1.60mm, IPC Medium Density)
pins: 1, 2

## RES SMD 1K OHM 1% 1/10W 0603
designator R?, comment 1k
RES SMD 1K OHM 1% 1/10W 0603; Manufacturer: Yageo; Manufacturer Part Number: RC0603FR-071KL; Power: 0.1W; Type: RES; Footprint: 0603; Tolerance: 1%; Temperature: 155dC; Digikey Part Number: 311-1.00KHRCT-ND; Value: 1k
footprint RESC1608X06N (Chip Resistor, 2-Leads, Body 1.55x0.85mm, IPC Medium Density)
pins: 1, 2

## RES SMD 10K OHM 1% 1/10W 0603
designator R?, comment 10k
RES SMD 10K OHM 1% 1/10W 0603; Manufacturer: Yageo; Manufacturer Part Number: RC0603FR-0710KL; Power: 0.1W; Type: RES; Footprint: 0603; Tolerance: 1%; Temperature: 155dC; Digikey Part Number: 311-10.0KHRCT-ND; Value: 10k
footprint RESC1608X06N (Chip Resistor, 2-Leads, Body 1.55x0.85mm, IPC Medium Density)
pins: 1, 2

## RES SMD 22K OHM 1% 1/10W 0603
designator R?, comment 22k
RES SMD 22K OHM 1% 1/10W 0603; Manufacturer: Yageo; Manufacturer Part Number: RC0603FR-0722KL; Power: 0.1W; Type: RES; Footprint: 0603; Tolerance: 1%; Digikey Part Number: 311-22.0KHRCT-ND; Value: 22k
footprint RESC1608X06N (Chip Resistor, 2-Leads, Body 1.55x0.85mm, IPC Medium Density)
pins: 1, 2

## RES SMD 100 OHM 1% 1/2W 1206
designator R?, comment 100R
RES SMD 100 OHM 1% 1/2W 1206; Manufacturer: Stackpole Electronics Inc.; Power: 0.5W; Footprint: 1206; Tolerance: 1%; Value: 100R; Digikey Part Number: RNCP1206FTD100RCT-ND
footprint RESC3216X07N (Chip Resistor, 2-Leads, Body 3.20x1.60mm, IPC Medium Density)
pins: 1, 2

## RES SMD 100 OHM 1% 1/10W 0603
designator R?, comment 100R
RES SMD 100 OHM 1% 1/10W 0603; Manufacturer: Yageo; Manufacturer Part Number: RC0603FR-07100RL; Power: 0.1W; Type: RES; Footprint: 0603; Tolerance: 1%; Digikey Part Number: 311-100HRCT-ND; Value: 100R
footprint RESC1608X06N (Chip Resistor, 2-Leads, Body 1.55x0.85mm, IPC Medium Density)
pins: 1, 2

## RES SMD 221 OHM 1% 1/2W 1206
designator R?, comment 221R
RES SMD 221 OHM 1% 1/2W 1206; Manufacturer: Stackpole Electronics Inc.; Power: 0.5W; Footprint: 1206; Tolerance: 1%; Value: 221R; Digikey Part Number: RNCP1206FTD221RCT-ND
footprint RESC3216X07N (Chip Resistor, 2-Leads, Body 3.20x1.60mm, IPC Medium Density)
pins: 1, 2

## RES SMD 330K OHM 1% 1/10W 0603
designator R?, comment 330K
RES SMD 330K OHM 1% 1/10W 0603; Manufacturer: Yageo; Manufacturer Part Number: RC0603FR-07330KL; Power: 0.1W; Type: RES; Footprint: 0603; Tolerance: 1%; Temperature: 155dC; Digikey Part Number: 311-330KHRCT-ND; Value: 330K
footprint RESC1608X06N (Chip Resistor, 2-Leads, Body 1.55x0.85mm, IPC Medium Density)
pins: 1, 2

## SPDT Switch
designator *
footprint JST PH-4
pins: 1 hidden, 2, 3, 4

## SWITCH TACTILE SPST
designator *
footprint 070543-0001 (Connector, Through-hole, 2.54mm Pitch)
pins: 1, 2

## TERMINAL BLOCK 2POS
designator J?  (value not drawn)
Digikey Part Number: ED2561-ND
footprint TERMINAL BLOCK 5MM 2POS
pins: 1, 2

## TERMINAL BLOCK 4POS
designator J?  (value not drawn)
Digikey Part Number: ED2563-ND
footprint TERMINAL BLOCK 5MM 4POS
pins: 1, 2, 3, 4

## TPA3116D2
designator U?
Digikey Part Number: 296-39337-1-ND
footprint DAP0032A
pins: 1 MODSEL (in) "Mode Select - Pull Low", 2 SDZ (in) "Shutdown Logic", 3 FAULTZ (out) "Active Low Fault Detect", 4 RINP (in), 5 RINN (in), 6 PLIMIT (in) "Power Limit", 7 GVDD (power) "Internal generated gate voltage - do not use!", 8 GAIN/SLV (in) "Gain select", 9 GND (power), 10 LINP (in), 11 LINN (in), 12 MUTE (in), 13 AM2 (in), 14 AM1 (in), 15 AM0 (in), 16 SYNC (io), 17 AVCC (power) "Analog power", 18 PVCC (power) "Power Supply", 19 PVCC (power) "Power Supply", 20 BSNL (io), 21 OUTNL (out), 22 GND (power), 23 OUTPL (out), 24 BSPL (io), 25 GND (power), 26 BSNR (io), 27 OUTNR (out), 28 GND (power), 29 OUTPR (out), 30 BSPR (io), 31 PVCC (power), 32 PVCC (power), 33 POWERPAD (power) hidden to GND "Power Pad"

## TPA3116D2_V2
designator U?
Digikey Part Number: 296-39337-1-ND
footprint DAP0032A
pins: 1 MODSEL (in), 2 SDZ (in), 3 FAULTZ (oc), 4 RINP (in), 5 RINN (in), 6 PLIMIT (in), 7 GVDD (power), 8 GAIN_SLV (in), 9 GND (power), 10 LINP (in), 11 LINN (in), 12 MUTE (in), 13 AM2 (in), 14 AM1 (in), 15 AM0 (in), 16 SYNC (io), 17 AVCC (power), 18 PVCC (power), 19 PVCC (power), 20 BSNL, 21 OUTNL (out), 22 GND (power), 23 OUTPL (out), 24 BSPL, 25 GND (power), 26 BSNR, 27 OUTNR (out), 28 GND (power), 29 OUTPR (out), 30 BSPR, 31 PVCC (power), 32 PVCC (power), 33 PAD (power)

## TPS73801DCQR
designator U?
Adjustable 1.21V-20V 1A Regulator; Digikey Part Number: 296-39489-1-ND; Value: TPS73801DCQR
footprint SOT127P705X180-6M (DCQ) (SOT223, 6-Leads, Body 6.50x7.05mm (avg), Pitch 1.27mm, IPC Low Density)
pins: 1 In (power), 2 Out (power), 3 GND (power), 4 FB (power), 5 EN, 6 TAB (power)